# EAGLE library part 67910-0002 (library Tronix-Molex)
Molex Connector Edge Connector, PCB Mount, RECEPT, 52 Contacts, 0.031 Pitch, SURFACE MOUNT Terminal with holder
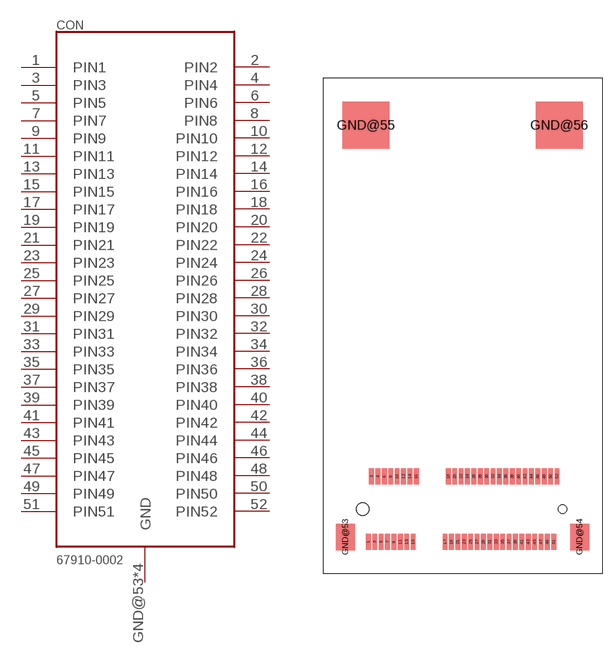
[diagram p0: symbol with the pads of 67910-0002; footprint 67910-0002]

Designator prefix CON

## 67910-0002  [67910-0002]
1  PIN1
2  PIN2
3  PIN3
4  PIN4
5  PIN5
6  PIN6
7  PIN7
8  PIN8
9  PIN9
10  PIN10
11  PIN11
12  PIN12
13  PIN13
14  PIN14
15  PIN15
16  PIN16
17  PIN17
18  PIN18
19  PIN19
20  PIN20
21  PIN21
22  PIN22
23  PIN23
24  PIN24
25  PIN25
26  PIN26
27  PIN27
28  PIN28
29  PIN29
30  PIN30
31  PIN31
32  PIN32
33  PIN33
34  PIN34
35  PIN35
36  PIN36
37  PIN37
38  PIN38
39  PIN39
40  PIN40
41  PIN41
42  PIN42
43  PIN43
44  PIN44
45  PIN45
46  PIN46
47  PIN47
48  PIN48
49  PIN49
50  PIN50
51  PIN51
52  PIN52
GND@53  GND
GND@54  GND
GND@55  GND
GND@56  GND

## Footprint 67910-0002 (pad centres in mm)
smd 0.6 x 2: 1 0.7,-4.1; 2 1.1,4.1; 3 1.5,-4.1; 4 1.9,4.1; 5 2.3,-4.1; 6 2.7,4.1; 7 3.1,-4.1; 8 3.5,4.1; 9 3.9,-4.1; 10 4.3,4.1; 11 4.7,-4.1; 12 5.1,4.1; 13 5.5,-4.1; 14 5.9,4.1; 15 6.3,-4.1; 16 6.7,4.1; 17 10.3,-4.1; 18 10.7,4.1; 19 11.1,-4.1; 20 11.5,4.1; 21 11.9,-4.1; 22 12.3,4.1; 23 12.7,-4.1; 24 13.1,4.1; 25 13.5,-4.1; 26 13.9,4.1; 27 14.3,-4.1; 28 14.7,4.1; 29 15.1,-4.1; 30 15.5,4.1; 31 15.9,-4.1; 32 16.3,4.1; 33 16.7,-4.1; 34 17.1,4.1; 35 17.5,-4.1; 36 17.9,4.1; 37 18.3,-4.1; 38 18.7,4.1; 39 19.1,-4.1; 40 19.5,4.1; 41 19.9,-4.1; 42 20.3,4.1; 43 20.7,-4.1; 44 21.1,4.1; 45 21.5,-4.1; 46 21.9,4.1; 47 22.3,-4.1; 48 22.7,4.1; 49 23.1,-4.1; 50 23.5,4.1; 51 23.9,-4.1; 52 24.3,4.1
smd 2.4 x 3.3: GND@53 -2.15,-3.5; GND@54 27.15,-3.5
smd 5.9 x 5.9: GND@55 0.4,48.05; GND@56 24.6,48.05
hole 1.6 at 0,0
hole 1.1 at 25,0